# Altium schematic symbol library PCB_DB_ADCS.SCHLIB: 65 symbols (part 2 of 2)
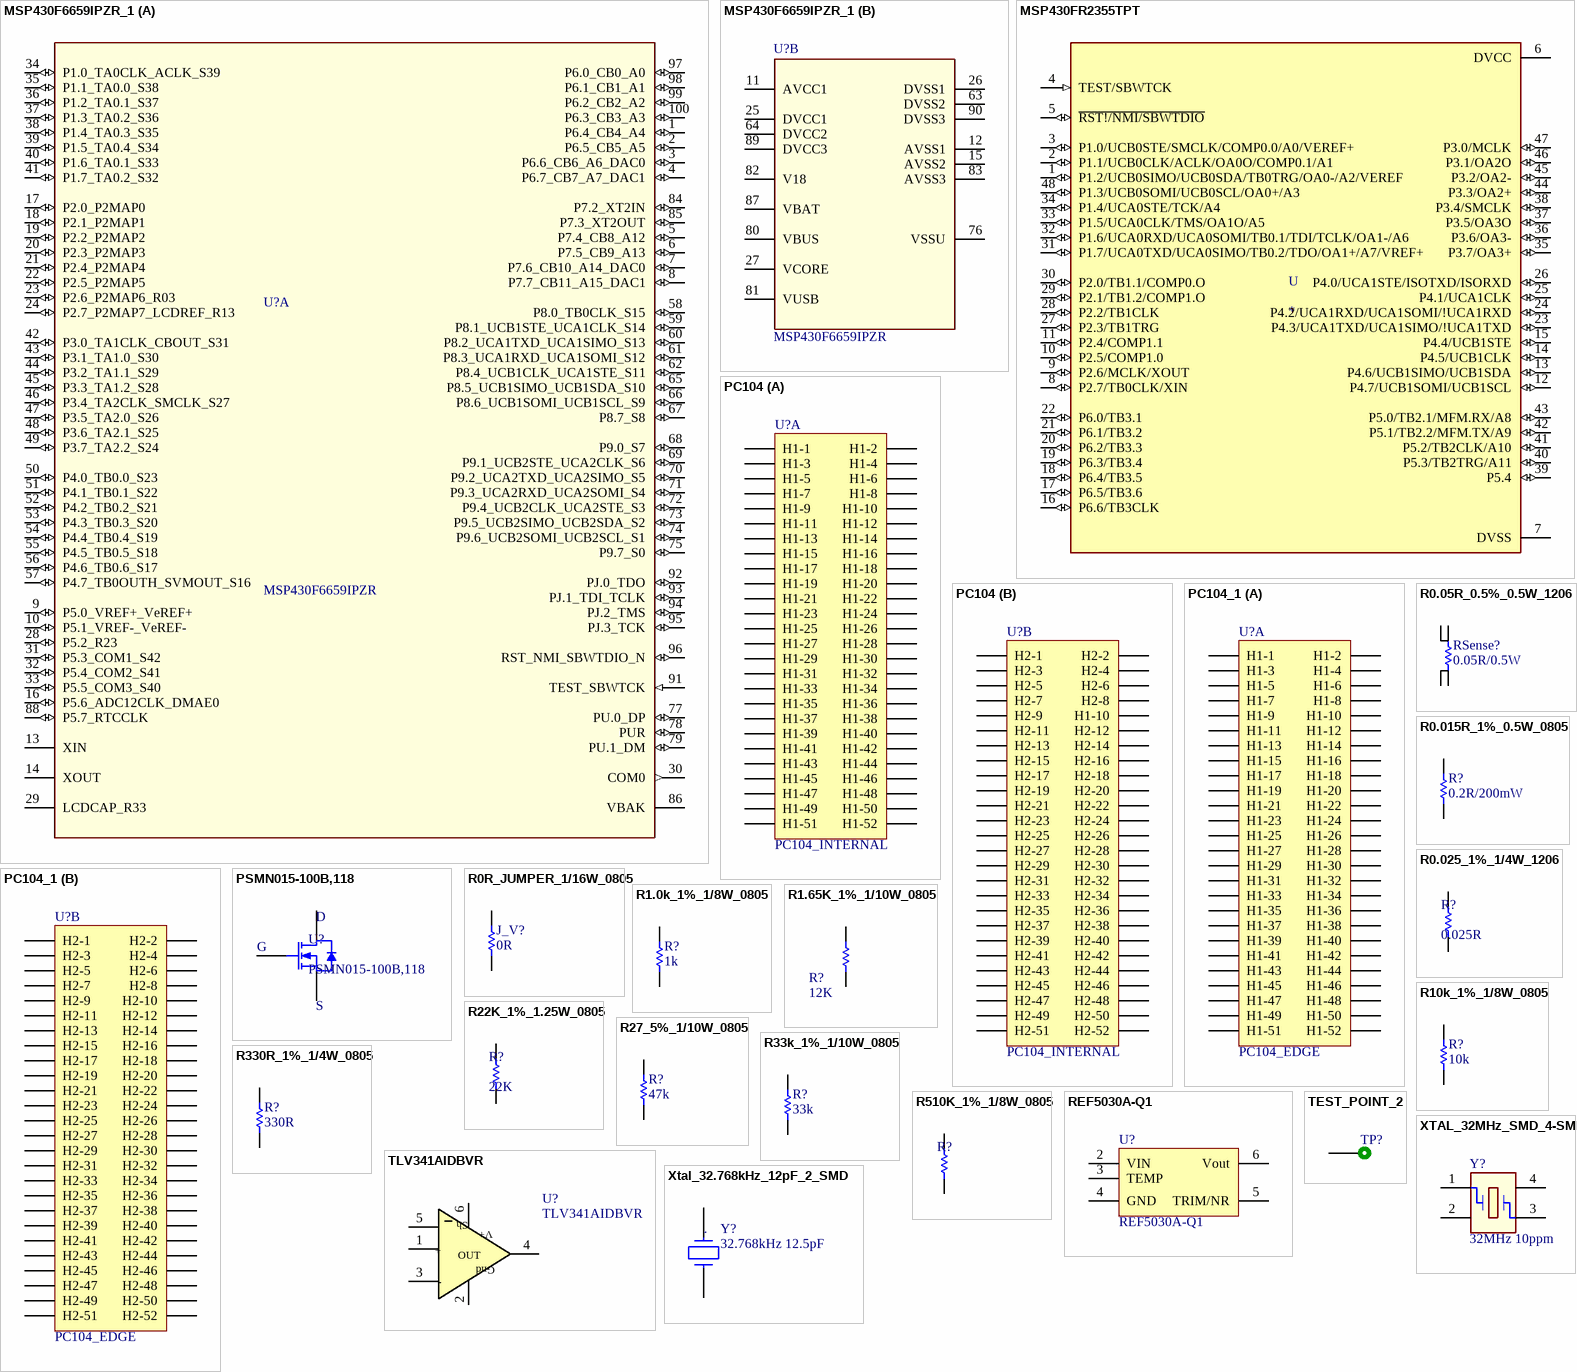
[diagram p3: symbols MSP430F6659IPZR_1 to XTAL_32MHz_SMD_4-SMD]

## R510K_1%_1/8W_0805
designator R?, comment 510K  (value not drawn)
RES 510K OHM 1/8W 1% 0805; Manufacturer: Vishay; Manufacturer Part Number: CRCW0805510KFKEA; Resistance: 510kR; Temperature Coefficient: 100ppm/°C; Power Rating: 125mW; Voltage Rating: 150V; Supplier 1: Digi-Key; Supplier Part Number 1: 541-510KCCT-ND; RoHS: Yes; Category: Chip SMD Resistors; Stock 1: 12876; Pricing 1: 1=0,10000, 10=0,06200, 100=0,02540, 1000=0,01142, 2500=0,00991 (USD); Mount: Surface Mount; Case/Package: 0805; Number of Pins: 2; Weight: 0.000194oz; Case Code (Imperial): 0805; Case Code (Metric): 2012; Contact Plating: Tin; Min Operating Temperature: -55°C; Max Operating Temperature: 155°C; Tolerance: 1%; Packaging: Tape and Reel; Composition: Thick Film; Package Quantity: 10; Voltage Rating (DC): 150V; Max Power Dissipation: 125mW; Number of Terminations: 2; Termination: SMD/SMT; Features: Automotive AEC-Q200; Military Standard: Not; Length: 2mm; Height: 0.45mm; Width: 1.25mm; Depth: 1.25mm; Radiation Hardening: No; Lead Free: Lead Free; REACH SVHC: Unknown; ComponentLink1URL: https://datasheet.ciiva.com/11809/0900766b80d98b26-11809600.pdf?src-supplier=RSComponents; ComponentLink1Description: https://datasheet.ciiva.com/11809/0900766b80d98b26-11809600.pdf?src-supplier=RSComponents; ComponentLink2URL: https://datasheet.ciiva.com/7726/dcrcwe3-7726005.pdf?src-supplier=Element14; ComponentLink2Description: https://datasheet.ciiva.com/7726/dcrcwe3-7726005.pdf?src-supplier=Element14; ComponentLink3URL: https://datasheet.ciiva.com/16500/dcrcwe3-16500877.pdf?src-supplier=Future+Electronics; ComponentLink3Description: https://datasheet.ciiva.com/16500/dcrcwe3-16500877.pdf?src-supplier=Future+Electronics; ComponentLink4URL: https://datasheet.ciiva.com/16852/dcrcwe3-16852381.pdf?src-supplier=Avnet+Europe; ComponentLink4Description: https://datasheet.ciiva.com/16852/dcrcwe3-16852381.pdf?src-supplier=Avnet+Europe; ComponentLink5URL: https://datasheet.ciiva.com/2467/dcrcwe3-2467631.pdf?src-supplier=Digi-Key; ComponentLink5Description: https://datasheet.ciiva.com/2467/dcrcwe3-2467631.pdf?src-supplier=Digi-Key; ComponentLink6URL: https://datasheet.ciiva.com/5542/dcrcwe3-109170-5542150.pdf?src-supplier=Mouser; ComponentLink6Description: https://datasheet.ciiva.com/5542/dcrcwe3-109170-5542150.pdf?src-supplier=Mouser; ComponentLink7URL: https://datasheet.ciiva.com/16778/70201119-16778886.pdf?src-supplier=Allied+Electronics; ComponentLink7Description: https://datasheet.ciiva.com/16778/70201119-16778886.pdf?src-supplier=Allied+Electronics; ComponentLink8URL: https://datasheet.ciiva.com/26316/fld-crcw-e3-data-en-26316507.pdf?src-supplier=Distrelec; ComponentLink8Description: https://datasheet.ciiva.com/26316/fld-crcw-e3-data-en-26316507.pdf?src-supplier=Distrelec; ComponentLink9URL: https://datasheet.ciiva.com/2467/dcrcwe3-2467629.pdf?src-supplier=Digi-Key; ComponentLink9Description: https://datasheet.ciiva.com/2467/dcrcwe3-2467629.pdf?src-supplier=Digi-Key; ComponentLink10URL: https://datasheet.ciiva.com/22683/1847332-22683325.pdf?src-supplier=Element14; ComponentLink10Description: https://datasheet.ciiva.com/22683/1847332-22683325.pdf?src-supplier=Element14; ComponentLink11URL: https://datasheet.ciiva.com/2467/dcrcwe3-2467630.pdf?src-supplier=Digi-Key; ComponentLink11Description: https://datasheet.ciiva.com/2467/dcrcwe3-2467630.pdf?src-supplier=Digi-Key; ComponentLink12URL: https://datasheet.ciiva.com/8896/dcrcwe3-8896286.pdf?src-supplier=Avnet; ComponentLink12Description: https://datasheet.ciiva.com/8896/dcrcwe3-8896286.pdf?src-supplier=Avnet
footprint 0805
pins: 1, 2

## REF5030A-Q1
designator U?
Partnumber: REF5030A-Q1
footprint SOIC-8 (SOIC, 8-Leads, Body 4,89x3,90mm, Pitch 1,27mm, IPC Medium Density)
pins: 2 VIN, 3 TEMP, 4 GND, 5 TRIM/NR, 6 Vout

## TEST_POINT_2
designator TP?  (value not drawn)  (no BOM)
Test point
footprint TEST_POINT_2
pins: 1

## TLV341AIDBVR
designator U?
Partnumber: TLV341AIDBVR
footprint SOT-23 6L
pins: 1 +IN, 2 Gnd, 3 -IN, 4 OUT, 5 EN, 6 V+
text: Sh; +; -

## Xtal_32.768kHz_12pF_2_SMD
designator Y?, comment 32.768kHz 12.5pF
32.768kHz ±20ppm Crystal 12.5pF 70 kOhm -40°C ~ 125°C; Partnumber: ECS-.327-12.5-34S-TR; NCM: 8541.60.10
footprint ABS06 0805
pins: 1, 2
text: .

## XTAL_32MHz_SMD_4-SMD
designator Y?, comment 32MHz 10ppm
32MHz ±10ppm Crystal 10pF 60 Ohm -40°C ~ 125°C; Partnumber: ABM8X-102-32.000MHZ-T; NCM: 8541.60.10
footprint XTAL_ABM8X
pins: 1, 2, 3, 4